# Altium footprint library PowerMonitoring.PcbLib: 20 footprints (part 2 of 2)
Each footprint in its own frame and in the unit in brackets; x right, y up, seen from the top. Pads: shape width x height; smd on the part's side, far side on the other; paste and mask are expansions set on the pad; w line width, h text height; cw(c..) or ccw(c..) is an arc to the next point about the centre after c.
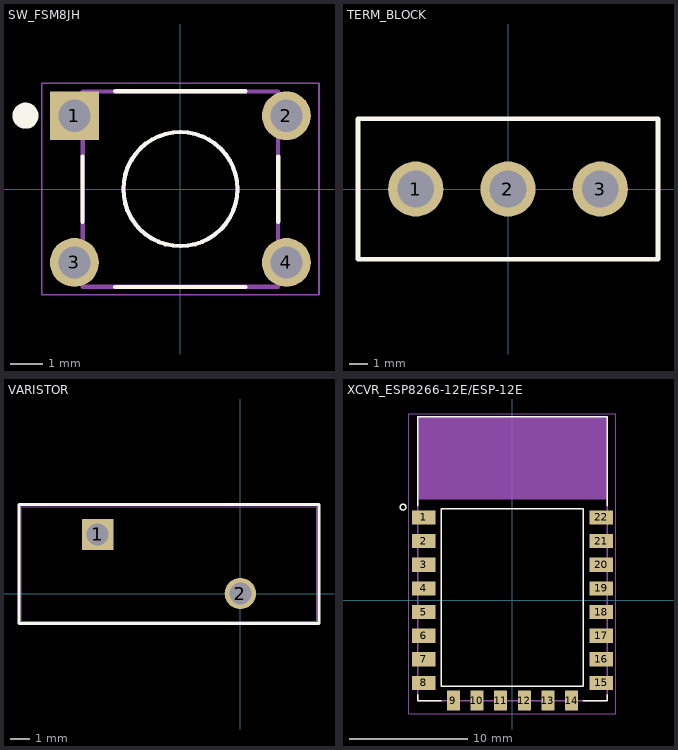
[diagram p1: the footprints below, top view; thin cyan lines are the x and y axes]

## SW_FSM8JH [mm]
pads (4):
  rect 1.498x1.498 hole 0.99: 1(-3.25,2.25)
  round 1.498 hole 0.99: 2(3.25,2.25) 3(-3.25,-2.25) 4(3.25,-2.25)
Top Overlay:
  circle w0.127: c0,0 r1.75
  circle w0.4: c-4.75,2.25 r0.2
  lines w0.127: -3,-1 -3,1 ; -2,-3 2,-3 ; -2,3 2,3 ; 3,-1 3,1
Mechanical 1:
  circle w0.127: c0,0 r1.75
  circle w0.4: c-3.25,2.25 r0.2
  lines w0.127: -2.995,-2.995 -2.995,2.995 2.995,2.995 2.995,-2.995 -2.995,-2.995
Mechanical 4:
  lines w0.05: -4.25,-3.245 4.25,-3.245 4.25,3.25 -4.25,3.25 -4.25,-3.245
3D body "User Library-FSM8JH.step": height 9.5, standoff -3.51, extent -3.898,-2.995 3.9,2.995

## TERM_BLOCK [mm] "BLUE"
pads (3):
  round 3 hole 2: 1(-5,0) 2(0,0) 3(5,0)
Top Overlay:
  lines w0.254: -8.128,-3.81 -8.128,3.81 8.128,3.81 8.128,-3.81 -8.128,-3.81
3D body "691102710003.stp": height 9.95, standoff -3.45, extent -8.1,-3.75 8.1,3.75

## VARISTOR [mil] "RES_ERZV14_155X6"
pads (2):
  rect 65x65 hole 45 mask-1000: 1(-295,122)
  round 65 hole 45 mask-1000: 2(0,0)
Top Overlay:
  lines w6: -457.5,-62 -457.5,184 162.5,184 162.5,-62 -457.5,-62
Top Paste:
  region: 0,32.78 -8.48,31.66 -16.39,28.39 -23.18,23.18 -28.39,16.39 -31.66,8.48 -32.78,0 -31.66,-8.48 -28.39,-16.39 -23.18,-23.18 -16.39,-28.39 -8.48,-31.66 0,-32.78 8.48,-31.66 16.39,-28.39 23.18,-23.18 28.39,-16.39 31.66,-8.48 32.78,0 31.66,8.48 28.39,16.39 23.18,23.18 16.39,28.39 8.48,31.66
  region: -327.5,89.5 -262.5,89.5 -262.5,154.5 -327.5,154.5
Top Solder:
  region: 0,32.78 -8.48,31.66 -16.39,28.39 -23.18,23.18 -28.39,16.39 -31.66,8.48 -32.78,0 -31.66,-8.48 -28.39,-16.39 -23.18,-23.18 -16.39,-28.39 -8.48,-31.66 0,-32.78 8.48,-31.66 16.39,-28.39 23.18,-23.18 28.39,-16.39 31.66,-8.48 32.78,0 31.66,8.48 28.39,16.39 23.18,23.18 16.39,28.39 8.48,31.66
  region: -327.5,89.5 -262.5,89.5 -262.5,154.5 -327.5,154.5
Bottom Solder:
  region: 0,32.78 -8.48,31.66 -16.39,28.39 -23.18,23.18 -28.39,16.39 -31.66,8.48 -32.78,0 -31.66,-8.48 -28.39,-16.39 -23.18,-23.18 -16.39,-28.39 -8.48,-31.66 0,-32.78 8.48,-31.66 16.39,-28.39 23.18,-23.18 28.39,-16.39 31.66,-8.48 32.78,0 31.66,8.48 28.39,16.39 23.18,23.18 16.39,28.39 8.48,31.66
  region: -327.5,89.5 -262.5,89.5 -262.5,154.5 -327.5,154.5
Mechanical 1:
  lines w1: -452.5,-57 -452.5,179 157.5,179 157.5,-57 -452.5,-57
3D body "RES_ERZV14_155X6X31.stp": height 727.99, standoff -205, extent -450,-57.99 160,178

## XCVR_ESP8266-12E/ESP-12E [mm]
pads (22):
  rect 2x1.2 smd: 1(-7.5,7) 2(-7.5,5) 3(-7.5,3) 4(-7.5,1) 5(-7.5,-1) 6(-7.5,-3) 7(-7.5,-5) 8(-7.5,-7) 15(7.5,-7) 16(7.5,-5) 17(7.5,-3) 18(7.5,-1) 19(7.5,1) 20(7.5,3) 21(7.5,5) 22(7.5,7)
  rect 1.1x1.7 smd: 9(-5,-8.5) 10(-3,-8.5) 11(-1,-8.5) 12(1,-8.5) 13(3,-8.5) 14(5,-8.5)
Top Overlay:
  circle w0.127: c-9.25,7.875 r0.25
  lines w0.127: -8,-8 -8,-8.5 -6,-8.5 ; -8,8 -8,15.5 8,15.5 8,8 ; 6,-8.5 8,-8.5 8,-8 ; -6,-7.26 6,-7.26 6,7.74 -6,7.74 -6,-7.26
Mechanical 1:
  region: -8.025,15.5 8,15.5 8,8.526 -8.025,8.526
  region: -8.023,15.5 8,15.5 8,8.524 -8.023,8.524
  lines w0.127: -8,-8.5 8,-8.5 8,15.5 -8,15.5 -8,-8.5
Mechanical 4:
  lines w0.05: -8.75,-9.625 8.75,-9.625 8.75,15.75 -8.75,15.75 -8.75,-9.625
3D body "User Library-EPS8266 ESP-12E.step": height 2.65, standoff -0.04, extent -7.949,-8.513 8.061,15.492